# EAGLE library part FH12-50S-0.5SV (library Mechanical)
Hirose FH12 series 0.5mm 50pin vertical connector
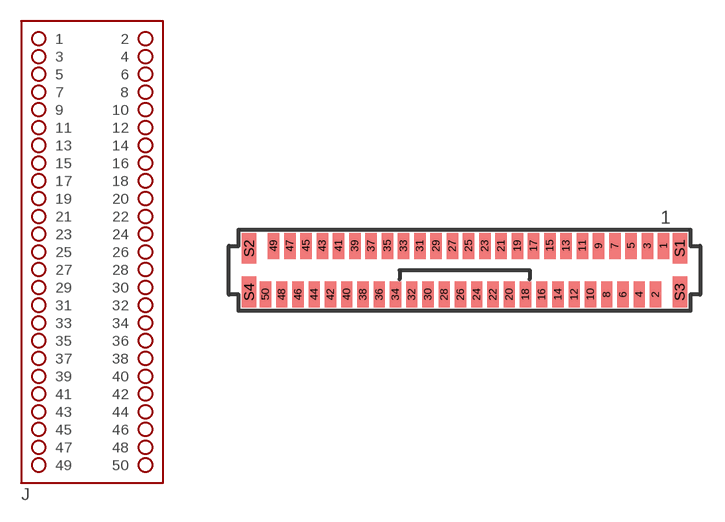
[diagram p60: symbol with the pads of FH12-50S-0.5SV; footprint FH12-50S-0.5SV]

Designator prefix J

## FH12-50S-0.5SV  [FH12-50S-0.5SV]
1  1  pas
2  2  pas
3  3  pas
4  4  pas
5  5  pas
6  6  pas
7  7  pas
8  8  pas
9  9  pas
10  10  pas
11  11  pas
12  12  pas
13  13  pas
14  14  pas
15  15  pas
16  16  pas
17  17  pas
18  18  pas
19  19  pas
20  20  pas
21  21  pas
22  22  pas
23  23  pas
24  24  pas
25  25  pas
26  26  pas
27  27  pas
28  28  pas
29  29  pas
30  30  pas
31  31  pas
32  32  pas
33  33  pas
34  34  pas
35  35  pas
36  36  pas
37  37  pas
38  38  pas
39  39  pas
40  40  pas
41  41  pas
42  42  pas
43  43  pas
44  44  pas
45  45  pas
46  46  pas
47  47  pas
48  48  pas
49  49  pas
50  50  pas

## Footprint FH12-50S-0.5SV (pad centres in mm)
Hirose FH12 series 0.5mm pitch 50pin Verticle mount connector
smd 0.7 x 1.6: 1 12.25,1.5; 2 11.75,-1.5; 3 11.25,1.5; 4 10.75,-1.5; 5 10.25,1.5; 6 9.75,-1.5; 7 9.25,1.5; 8 8.75,-1.5; 9 8.25,1.5; 10 7.75,-1.5; 11 7.25,1.5; 12 6.75,-1.5; 13 6.25,1.5; 14 5.75,-1.5; 15 5.25,1.5; 16 4.75,-1.5; 17 4.25,1.5; 18 3.75,-1.5; 19 3.25,1.5; 20 2.75,-1.5; 21 2.25,1.5; 22 1.75,-1.5; 23 1.25,1.5; 24 0.75,-1.5; 25 0.25,1.5; 26 -0.25,-1.5; 27 -0.75,1.5; 28 -1.25,-1.5; 29 -1.75,1.5; 30 -2.25,-1.5; 31 -2.75,1.5; 32 -3.25,-1.5; 33 -3.75,1.5; 34 -4.25,-1.5; 35 -4.75,1.5; 36 -5.25,-1.5; 37 -5.75,1.5; 38 -6.25,-1.5; 39 -6.75,1.5; 40 -7.25,-1.5; 41 -7.75,1.5; 42 -8.25,-1.5; 43 -8.75,1.5; 44 -9.25,-1.5; 45 -9.75,1.5; 46 -10.25,-1.5; 47 -10.75,1.5; 48 -11.25,-1.5; 49 -11.75,1.5; 50 -12.25,-1.5
smd 0.9 x 1.9: S1 13.25,1.35; S2 -13.25,1.35; S3 13.25,-1.35; S4 -13.25,-1.35